# EAGLE library part SVF-CV-V1.1 (library XM8)
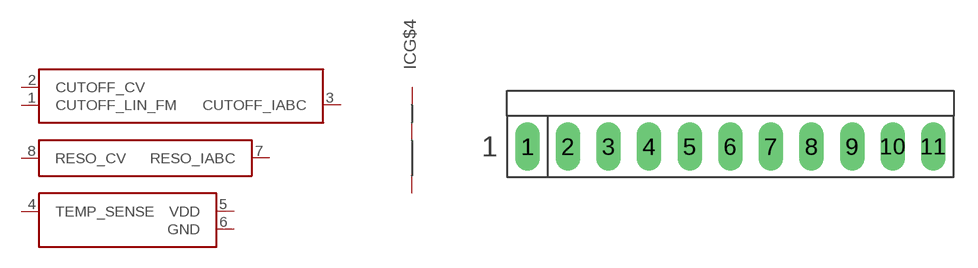
[diagram p26: symbol with the pads of XM8-SVF-CV-V1.1V; footprint XM8-SVF-CV-V1.1V]

Designator prefix IC; gates G$1=XM8-SVF-CUTOFF-CV-V1.1 G$2=XM8-SVF-RESO-CV-V1.1 G$3=XM8-SVF-TEMP-V1.1 G$4=XM8-PWR

## SVF-CV-V1.1  [XM8-SVF-CV-V1.1V]
1  G$1:CUTOFF_LIN_FM
2  G$1:CUTOFF_CV
3  G$1:CUTOFF_IABC
4  G$3:TEMP_SENSE
5  G$3:VDD
6  G$3:GND
7  G$2:RESO_IABC
8  G$2:RESO_CV
9  G$4:+V  pwr
10  G$4:AGND  pwr
11  G$4:-V  pwr

## Footprint XM8-SVF-CV-V1.1V (pad centres in mm)
Xonik SVF Cutoff and Resonance CV board v1.1, vertical mount
drill 1.016 long: 1 -12.7,0; 2 -10.16,0; 3 -7.62,0; 4 -5.08,0; 5 -2.54,0; 6 0,0; 7 2.54,0; 8 5.08,0; 9 7.62,0; 10 10.16,0; 11 12.7,0